# Altium footprint library CEDCP.PcbLib: 2 footprints
Each footprint in its own frame and in the unit in brackets; x right, y up, seen from the top. Pads: shape width x height; smd on the part's side, far side on the other; paste and mask are expansions set on the pad; w line width, h text height; cw(c..) or ccw(c..) is an arc to the next point about the centre after c.
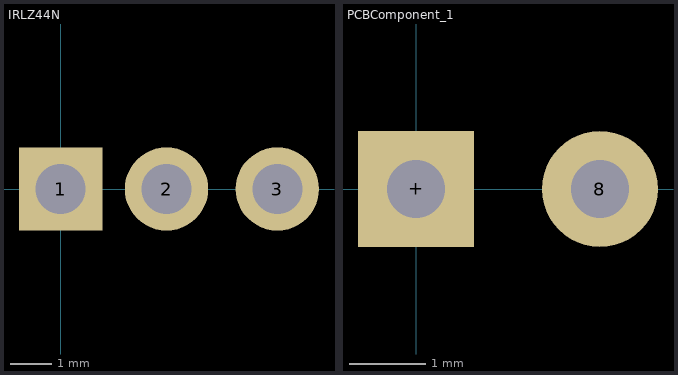
[diagram p0: the footprints below, top view; thin cyan lines are the x and y axes]

## IRLZ44N [mm] "MOSFET"
pads (3):
  rect 2x2 hole 1.2: 1(0,0)
  round 2 hole 1.2: 2(2.54,0) 3(5.2,0)
3D body "79924.stp": height 24.26, standoff -6.73, extent -2.796,-1.651 7.874,3.179

## PCBComponent_1 [mil]
pads (2):
  round 60 hole 30: 8(95,0)
  rect 60x60 hole 30: +(0,0)